# Altium integrated library LPS3015-103MRB.IntLib: 1 symbol
Pins are listed as number, name and electrical type; pins without a type are passive.

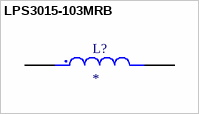
[diagram p0: symbol LPS3015-103MRB]

## LPS3015-103MRB
designator L?
Power inductor, shielded, 20% tol, SMT, RoHS, lead-free, halogen-free; MF: Coilcraft; MP: LPS3015-103MRB; SnapEDA_Link: https://www.snapeda.com/parts/LPS3015-103MRB/Coilcraft/view-part/?ref=snap; Package: None; Value: *; Check_prices: https://www.snapeda.com/parts/LPS3015-103MRB/Coilcraft/view-part/?ref=eda
footprint IND_LPS3015-103MRB
pins: 1, 2